# EAGLE library part SDCARD (library SD_card)
SD card connector KINGFONT SDCMF-10915W010
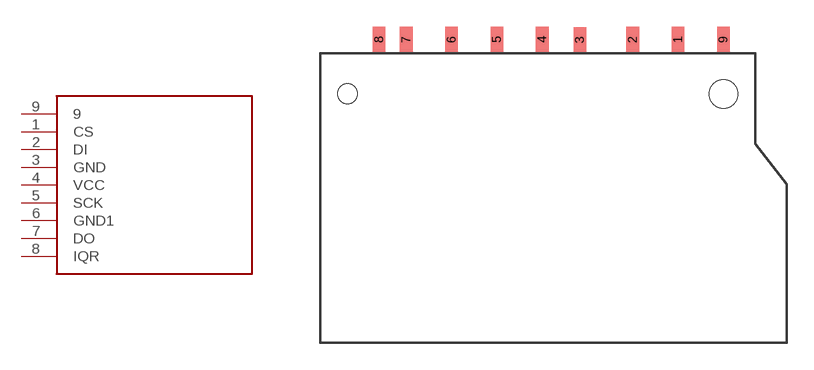
[diagram p0: symbol with the pads of SDCMF-10915W010; footprint SDCMF-10915W010]

Designator prefix -

## SDCARDVAR2  [SDCMF-10915W010]
1  CS
2  DI
3  GND
4  VCC
5  SCK
6  GND1
7  DO
8  IQR
9  9

## Footprint SDCMF-10915W010 (pad centres in mm)
smd 0.711 x 1.422: 1 7.366,13.462; 2 4.826,13.462; 3 1.859,13.44; 4 -0.254,13.462; 5 -2.794,13.462; 6 -5.334,13.462; 7 -7.874,13.462; 8 -9.398,13.462; 9 9.906,13.462
hole 1.6 at 9.906,10.414
hole 1.1 at -11.176,10.414